# EAGLE library part ADAFRUIT_FEATHER_M0_BLUETOOTH (library talons-microcontrollers)
Adafruit Feather https://www.adafruit.com/feather https://learn.adafruit.com/adafruit-feather-m0-bluefruit-le
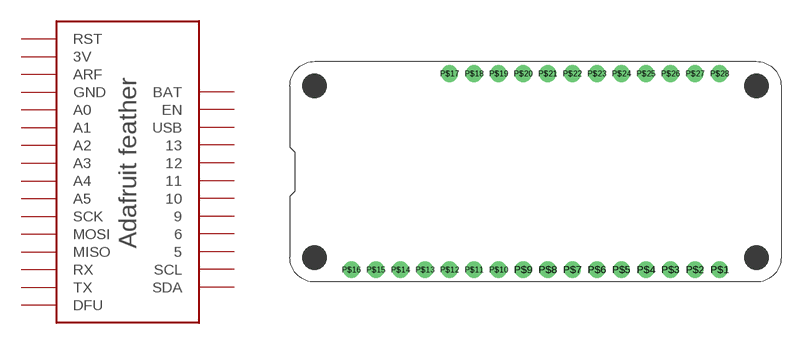
[diagram p5: symbol with the pads of ADAFRUIT_FEATHER_M0_BLUETOOTH; footprint ADAFRUIT_FEATHER_M0_BLUETOOTH]

Designator prefix -

## ADAFRUIT_FEATHER_M0_BLUETOOTH  [ADAFRUIT_FEATHER_M0_BLUETOOTH]
P$1  DFU
P$2  TX  out
P$3  RX  in
P$4  MISO  in
P$5  MOSI  out
P$6  SCK
P$7  A5
P$8  A4
P$9  A3
P$10  A2
P$11  A1
P$12  A0
P$13  GND  pwr
P$14  ARF
P$15  3V  pwr
P$16  RST
P$17  BAT  pwr
P$18  EN
P$19  USB  pwr
P$20  13
P$21  12
P$22  11
P$23  10
P$24  9
P$25  6
P$26  5
P$27  SCL
P$28  SDA

## Footprint ADAFRUIT_FEATHER_M0_BLUETOOTH (pad centres in mm)
drill 1.143: P$1 44.45,1.27; P$2 41.91,1.27; P$3 39.37,1.27; P$4 36.83,1.27; P$5 34.29,1.27; P$6 31.75,1.27; P$7 29.21,1.27; P$8 26.67,1.27; P$9 24.13,1.27; P$10 21.59,1.27; P$11 19.05,1.27; P$12 16.51,1.27; P$13 13.97,1.27; P$14 11.43,1.27; P$15 8.89,1.27; P$16 6.35,1.27; P$17 16.51,21.59; P$18 19.05,21.59; P$19 21.59,21.59; P$20 24.13,21.59; P$21 26.67,21.59; P$22 29.21,21.59; P$23 31.75,21.59; P$24 34.29,21.59; P$25 36.83,21.59; P$26 39.37,21.59; P$27 41.91,21.59; P$28 44.45,21.59